# Altium schematic symbol library AZ1117IH-3P3TRG1.SchLib: 2 symbols
Pins are listed as number, name and electrical type; pins without a type are passive.

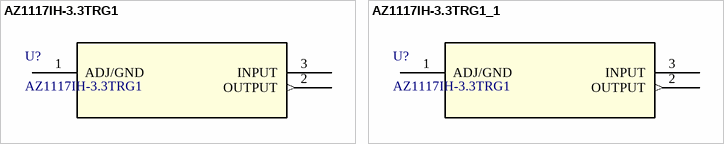
[diagram p0: symbols AZ1117IH-3.3TRG1 to AZ1117IH-3.3TRG1_1]

## AZ1117IH-3.3TRG1
designator U?
No Description Available; Mfr_Name: Diodes Inc; Copyright: Copyright (C) 2023 Ultra Librarian. All rights reserved.; Manufacturer_Part_Number: AZ1117IH-3.3TRG1; RefDes: RefDes; Type: DEV
footprint SOT223_AZ1117I_6P5X3P5_DIO
pins: 1 ADJ/GND (power), 2 OUTPUT (out), 3 INPUT

## AZ1117IH-3.3TRG1_1
designator U?, comment AZ1117IH-3.3TRG1
No Description Available; Mfr_Name: Diodes Inc; Copyright: Copyright (C) 2023 Ultra Librarian. All rights reserved.; Manufacturer_Part_Number: AZ1117IH-3.3TRG1; RefDes: RefDes; Type: DEV
footprint SOT223_AZ1117I_6P5X3P5_DIO
pins: 1 ADJ/GND (power), 2 OUTPUT (out), 3 INPUT